# Altium integrated library TPD3E001DRLR.IntLib: 1 symbol
Pins are listed as number, name and electrical type; pins without a type are passive.

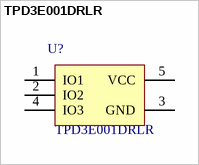
[diagram p0: symbol TPD3E001DRLR]

## TPD3E001DRLR
designator U?
Low-Capacitance + / - 15 kV ESD-Protection Array for High-Speed Data Interfaces, 3 Channels, -40 to +85 degC, 5-pin SOT (DRL), Green (RoHS & no Sb/Br); Manufacturer: Texas Instruments; IO Capacitance(Typ)(pF): 1.5; IEC 61000-4-2 Contact(+/- kV): 8; USB High Speed: TRUE; Breakdown Voltage(Min)(V): 11; IO Leakage Current(nA): 1; IEC 61000-4-2 Air-Gap(+/- kV): 15; SubFamily: ESD Solution; ComponentLink1Description: Manufacturer URL; ComponentLink2Description: Datasheet; DatasheetVersion: SLLS683D; ComponentLink1URL: http://www.ti.com/; PackageReference: DRL0005A; Mounting Technology: Surface Mount; PackageVersion: revD, Aug-2007; Eco-Plan: Green (RoHS & no Sb/Br); PackageDescription: 5-Pin Plastic Small Outline, Flat Lead 0.5 mm Pitch; ComponentLink2URL: http://www.ti.com/general/docs/lit/getliterature.tsp?genericPartNumber=TPD3E001&fileType=pdf; HelpURL: https://www.digikey.com/product-detail/en/texas-instruments/TPD3E001DRLR/296-21885-2-ND/1629059; PartNumber: TPD3E001DRLR
footprint DRL0005A
pins: 1 IO1 "ESD-protected channel", 2 IO2 "ESD-protected channel", 3 GND (power) "Ground", 4 IO3 "ESD-protected channel", 5 VCC (power) "Power-supply input. Bypass VCC to GND with a 0.1-uF ceramic Capacitor."